# Altium schematic symbol library LD051C121KAB2A.SchLib: 1 symbol
Pins are listed as number, name and electrical type; pins without a type are passive.

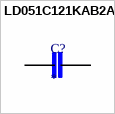
[diagram p0: symbol LD051C121KAB2A]

## LD051C121KAB2A
designator C?
Ceramic Capacitor; MP: LD051C121KAB2A; MF: AVX; SnapEDA_Link: https://www.snapeda.com/parts/LD051C121KAB2A/AVX/view-part/?ref=snap; Value: *; Availability: In Stock; Package: 0805 AVX; Check_prices: https://www.snapeda.com/parts/LD051C121KAB2A/AVX/view-part/?ref=eda; Price: None; Purchase-URL: https://pricing.snapeda.com/search/part/LD051C121KAB2A/?ref=eda
footprint CAPC2012X140N
pins: 1, 2